# Altium schematic symbol library ST STM32L100 64PIN.SchLib: 1 symbol
Pins are listed as number, name and electrical type; pins without a type are passive.

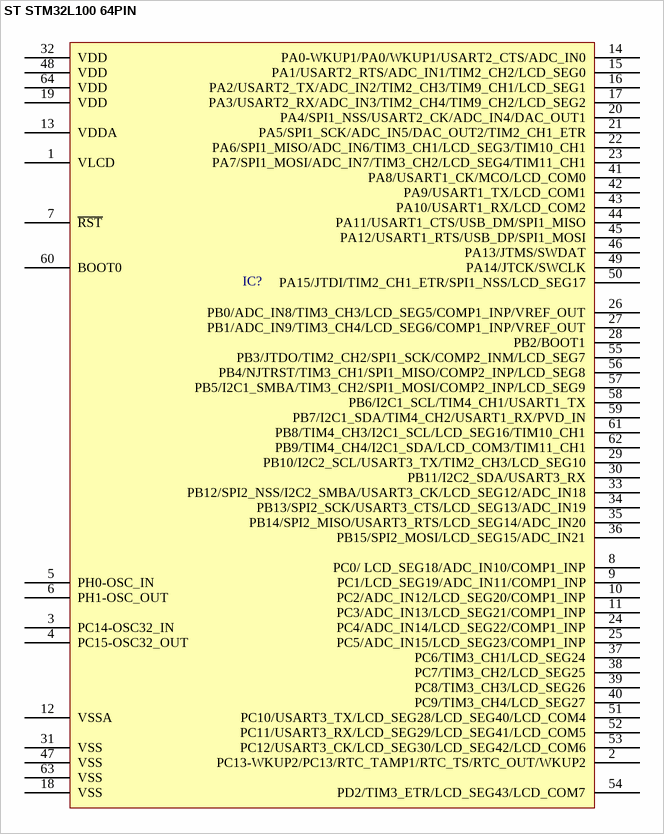
[diagram p0: symbol ST STM32L100 64PIN]

## ST STM32L100 64PIN
designator IC?
pins: 1 VLCD (power), 2 PC13-WKUP2/PC13/RTC_TAMP1/RTC_TS/RTC_OUT/WKUP2, 3 PC14-OSC32_IN "PC14-OSC32_IN/PC14/OSC32_IN", 4 PC15-OSC32_OUT "PC15-OSC32_OUT/PC15/OSC32_OUT", 5 PH0-OSC_IN "PH0-OSC_IN/PH0/OSC_IN", 6 PH1-OSC_OUT "PH1-OSC_OUT/PH1/OSC_OUT", 7 ~{RST} "NRST", 8 PC0/ LCD_SEG18/ADC_IN10/COMP1_INP "PC0/ADC_IN10/LCD_SEG18/COMP1_INP", 9 PC1/LCD_SEG19/ADC_IN11/COMP1_INP "PC1/ADC_IN11/LCD_SEG19/COMP1_INP", 10 PC2/ADC_IN12/LCD_SEG20/COMP1_INP, 11 PC3/ADC_IN13/LCD_SEG21/COMP1_INP, 12 VSSA (power), 13 VDDA (power), 14 PA0-WKUP1/PA0/WKUP1/USART2_CTS/ADC_IN0 "PA0-WKUP1/PA0/WKUP1/USART2_CTS/ADC_IN0/TIM2_CH1_ETR/COMP1_INP", 15 PA1/USART2_RTS/ADC_IN1/TIM2_CH2/LCD_SEG0 "PA1/USART2_RTS/ADC_IN1/TIM2_CH2/LCD_SEG0/COMP1_INP", 16 PA2/USART2_TX/ADC_IN2/TIM2_CH3/TIM9_CH1/LCD_SEG1 "PA2/USART2_TX/ADC_IN2/TIM2_CH3/TIM9_CH1/LCD_SEG1/COMP1_INP", 17 PA3/USART2_RX/ADC_IN3/TIM2_CH4/TIM9_CH2/LCD_SEG2 "PA3/USART2_RX/ADC_IN3/TIM2_CH4/TIM9_CH2/LCD_SEG2/COMP1_INP", 18 VSS (power) "VSS_4", 19 VDD (power) "VDD_4", 20 PA4/SPI1_NSS/USART2_CK/ADC_IN4/DAC_OUT1 "PA4/SPI1_NSS/USART2_CK/ADC_IN4/DAC_OUT1/COMP1_INP", 21 PA5/SPI1_SCK/ADC_IN5/DAC_OUT2/TIM2_CH1_ETR "PA5/SPI1_SCK/ADC_IN5/DAC_OUT2/TIM2_CH1_ETR/COMP1_INP", 22 PA6/SPI1_MISO/ADC_IN6/TIM3_CH1/LCD_SEG3/TIM10_CH1 "PA6/SPI1_MISO/ADC_IN6/TIM3_CH1/TIM1_BKIN/LCD_SEG3/TIM10_CH1/COMP1_INP", 23 PA7/SPI1_MOSI/ADC_IN7/TIM3_CH2/LCD_SEG4/TIM11_CH1 "PA7/SPI1_MOSI/ADC_IN7/LCD_SEG4", 24 PC4/ADC_IN14/LCD_SEG22/COMP1_INP, 25 PC5/ADC_IN15/LCD_SEG23/COMP1_INP, 26 PB0/ADC_IN8/TIM3_CH3/LCD_SEG5/COMP1_INP/VREF_OUT, 27 PB1/ADC_IN9/TIM3_CH4/LCD_SEG6/COMP1_INP/VREF_OUT, 28 PB2/BOOT1, 29 PB10/I2C2_SCL/USART3_TX/TIM2_CH3/LCD_SEG10, 30 PB11/I2C2_SDA/USART3_RX "PB11/I2C2_SDA/USART3_RX/TIM2_CH4/LCD_SEG11", 31 VSS (power) "VSS_1", 32 VDD (power) "VDD_1", 33 PB12/SPI2_NSS/I2C2_SMBA/USART3_CK/LCD_SEG12/ADC_IN18 "PB12/SPI2_NSS/I2C2_SMBA/USART3_CK/LCD_SEG12/ADC_IN18/COMP1_INP/TIM10_CH1", 34 PB13/SPI2_SCK/USART3_CTS/LCD_SEG13/ADC_IN19 "PB13/SPI2_SCK/USART3_CTS/LCD_SEG13/ADC_IN19/COMP1_INP/TIM9_CH1", 35 PB14/SPI2_MISO/USART3_RTS/LCD_SEG14/ADC_IN20 "PB14/SPI2_MISO/USART3_RTS/LCD_SEG14/ADC_IN20/COMP1_INP/TIM9_CH2", 36 PB15/SPI2_MOSI/LCD_SEG15/ADC_IN21, 37 PC6/TIM3_CH1/LCD_SEG24, 38 PC7/TIM3_CH2/LCD_SEG25, 39 PC8/TIM3_CH3/LCD_SEG26, 40 PC9/TIM3_CH4/LCD_SEG27, 41 PA8/USART1_CK/MCO/LCD_COM0, 42 PA9/USART1_TX/LCD_COM1, 43 PA10/USART1_RX/LCD_COM2, 44 PA11/USART1_CTS/USB_DM/SPI1_MISO, 45 PA12/USART1_RTS/USB_DP/SPI1_MOSI, 46 PA13/JTMS/SWDAT, 47 VSS (power) "VSS_2", 48 VDD (power) "VDD_2", 49 PA14/JTCK/SWCLK, 50 PA15/JTDI/TIM2_CH1_ETR/SPI1_NSS/LCD_SEG17, 51 PC10/USART3_TX/LCD_SEG28/LCD_SEG40/LCD_COM4, 52 PC11/USART3_RX/LCD_SEG29/LCD_SEG41/LCD_COM5, 53 PC12/USART3_CK/LCD_SEG30/LCD_SEG42/LCD_COM6, 54 PD2/TIM3_ETR/LCD_SEG43/LCD_COM7, 55 PB3/JTDO/TIM2_CH2/SPI1_SCK/COMP2_INM/LCD_SEG7, 56 PB4/NJTRST/TIM3_CH1/SPI1_MISO/COMP2_INP/LCD_SEG8, 57 PB5/I2C1_SMBA/TIM3_CH2/SPI1_MOSI/COMP2_INP/LCD_SEG9, 58 PB6/I2C1_SCL/TIM4_CH1/USART1_TX, 59 PB7/I2C1_SDA/TIM4_CH2/USART1_RX/PVD_IN, 60 BOOT0, 61 PB8/TIM4_CH3/I2C1_SCL/LCD_SEG16/TIM10_CH1, 62 PB9/TIM4_CH4/I2C1_SDA/LCD_COM3/TIM11_CH1, 63 VSS (power) "VSS_3", 64 VDD (power) "VDD_3"